# EAGLE library part GTM2088ARGB (library mylib (Copie en conflit de phoenix 2014-09-20))
a 8x8 RGB matrix
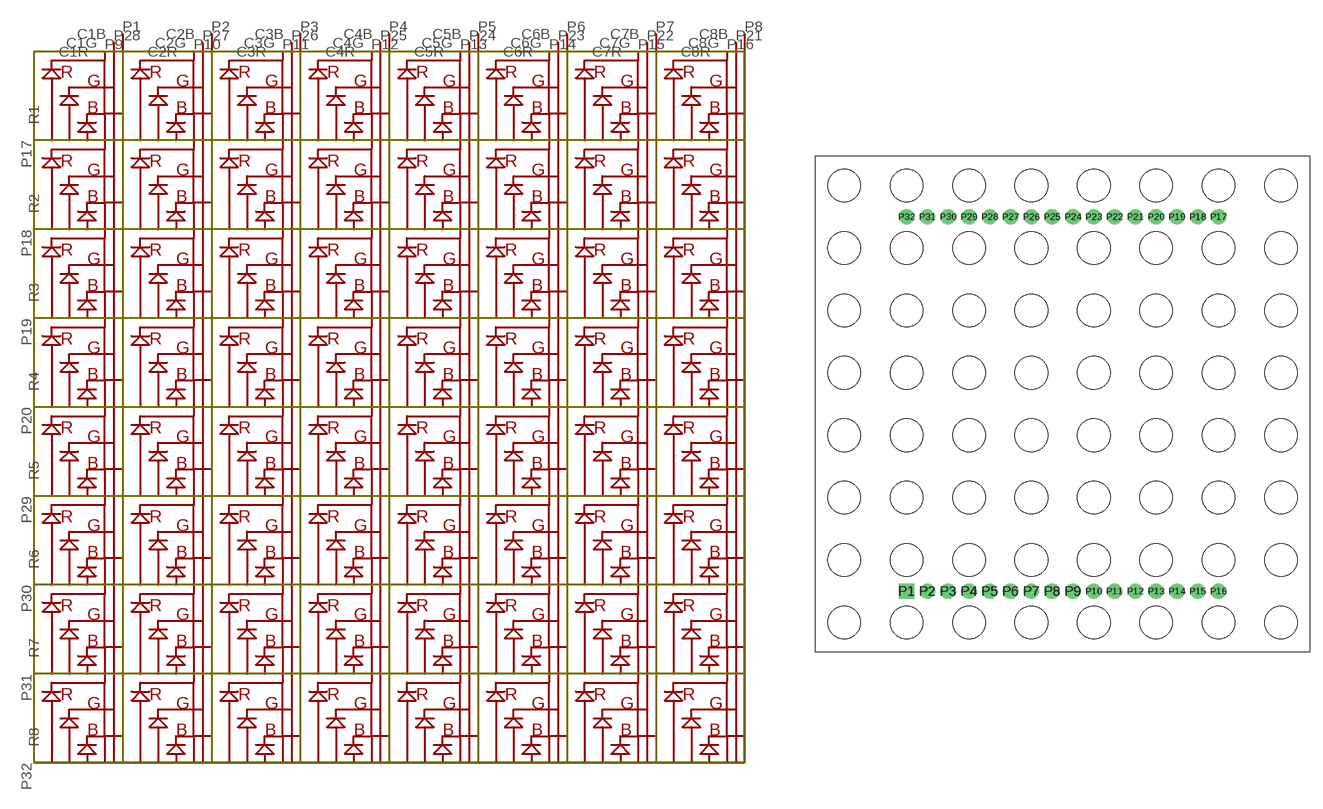
[diagram p0: symbol with the pads of 8X8MATRIX; footprint 8X8MATRIX]

Designator prefix -

## GTM2088ARGB  [8X8MATRIX]
P1  C1B
P2  C2B
P3  C3B
P4  C4B
P5  C5B
P6  C6B
P7  C7B
P8  C8B
P9  C1R
P10  C2R
P11  C3R
P12  C4R
P13  C5R
P14  C6R
P15  C7R
P16  C8R
P17  R1
P18  R2
P19  R3
P20  R4
P21  C8G
P22  C7G
P23  C6G
P24  C5G
P25  C4G
P26  C3G
P27  C2G
P28  C1G
P29  R5
P30  R6
P31  R7
P32  R8

## Footprint 8X8MATRIX (pad centres in mm)
drill 1.016 pad 1.88 square: P1 -19.05,-22.86
drill 1.016 pad 1.88: P2 -16.51,-22.86; P3 -13.97,-22.86; P17 19.05,22.86; P18 16.51,22.86; P19 13.97,22.86; P20 11.43,22.86; P21 8.89,22.86; P22 6.35,22.86; P23 3.81,22.86; P24 1.27,22.86; P25 -1.27,22.86; P26 -3.81,22.86; P27 -6.35,22.86; P28 -8.89,22.86; P29 -11.43,22.86; P30 -13.97,22.86; P31 -16.51,22.86; P32 -19.05,22.86
drill 1 pad 1.88: P4 -11.43,-22.86; P5 -8.89,-22.86; P6 -6.35,-22.86; P7 -3.81,-22.86; P8 -1.27,-22.86; P9 1.27,-22.86; P10 3.81,-22.86; P11 6.35,-22.86; P12 8.89,-22.86; P13 11.43,-22.86; P14 13.97,-22.86; P15 16.51,-22.86; P16 19.05,-22.86